# EAGLE library part LDB212G4020 (library aurigaBot)
balun für 2.45 GHz, 200 Ohm bal auf 50 Ohm unbal
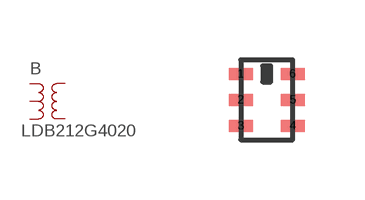
[diagram p2: symbol with the pads of LDB21; footprint LDB21]

Designator prefix B

## LDB212G4020  [LDB21]
1  UNBAL
2  GND1  pwr
3  BAL1
4  BAL2
5  GND2  pwr
6  NC  nc

## Footprint LDB21 (pad centres in mm)
smd 0.6 x 0.3: 1 -0.65,0.65; 2 -0.65,0; 3 -0.65,-0.65; 4 0.65,-0.65; 5 0.65,0; 6 0.65,0.65